# Altium footprint library ADC1X2200-10_V1-1.PcbLib: 38 footprints (part 3 of 3)
Each footprint in its own frame and in the unit in brackets; x right, y up, seen from the top. Pads: shape width x height; smd on the part's side, far side on the other; paste and mask are expansions set on the pad; w line width, h text height; cw(c..) or ccw(c..) is an arc to the next point about the centre after c.
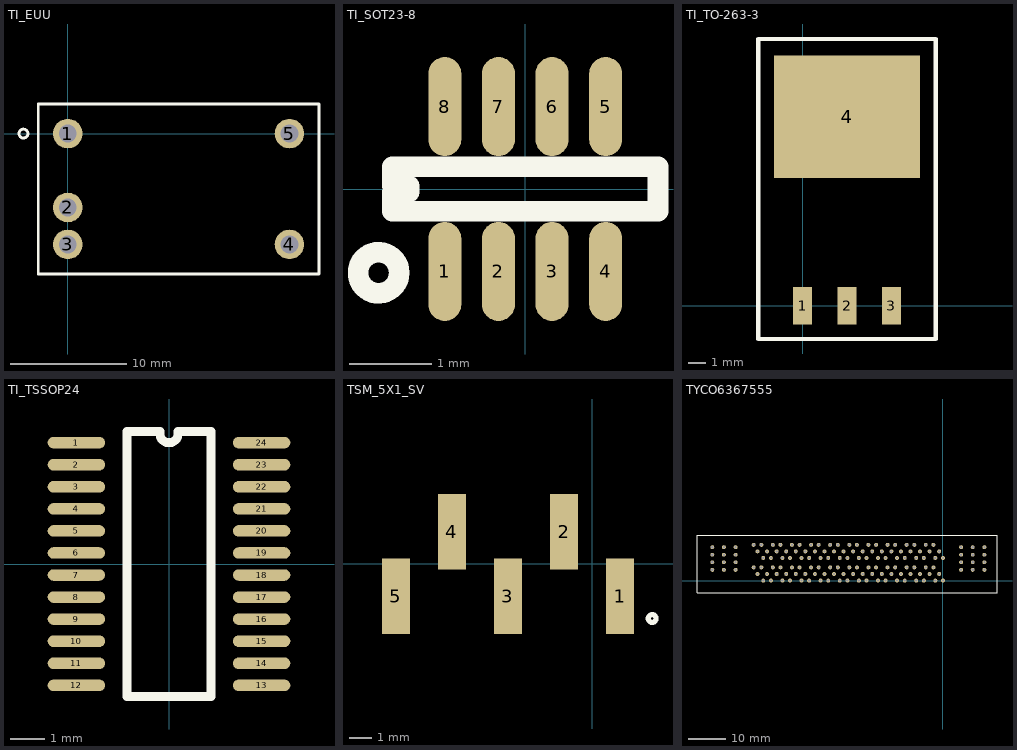
[diagram p2: the footprints below, top view; thin cyan lines are the x and y axes]

## TI_EUU [mil]
pads (5):
  round 100 hole 60: 1(0,0) 2(0,-250) 3(0,-375) 4(750,-375) 5(750,0)
Top Overlay:
  circle w9.84: c-150,0 r15
  lines w9.84: -100,-475 -100,100 850,100 850,-475 -100,-475
Mechanical 13:
  text "U?" at -75,100 h25
3D body: height 393.7, standoff 0, extent -65,-440 815,65

## TI_SOT23-8 [mm]
pads (8):
  oval 0.4x1.2 smd: 1(-0.975,-1) 2(-0.325,-1) 3(0.325,-1) 4(0.975,-1) 5(0.975,1) 6(0.325,1) 7(-0.325,1) 8(-0.975,1)
Top Overlay:
  circle w0.25: c-1.778,-1.016 r0.25
  lines w0.254: -1.61,-0.27 1.61,-0.27 1.61,0.27 -1.61,0.27 -1.61,0.034 -1.409,0.034 -1.409,-0.034 -1.61,-0.034 -1.61,-0.27
Mechanical 13:
  text "U1" at -0.438,-0.381 h0.64
3D body: height 1.2, standoff 0, extent -1.47,-1.4 1.47,1.4

## TI_TO-263-3 [mm]
pads (4):
  rect 1.07x2.16 smd: 1(0,0) 2(2.54,0) 3(5.08,0)
  rect 8.33x6.99 smd: 4(2.54,10.795)
Top Overlay:
  lines w0.254: -2.54,-1.905 -2.54,15.24 7.62,15.24 7.62,-1.905 -2.54,-1.905
Mechanical 13:
  text "T1" at -2.286,-3.175 h0.64
3D body: height 4.57, standoff -0.15, extent -2.54,-0.673 7.62,13.627

## TI_TSSOP24 [mil]
pads (24):
  oval 65x13 smd: 1(-105,137.5) 2(-105,112.5) 3(-105,87.5) 4(-105,62.5) 5(-105,37.5) 6(-105,12.5) 7(-105,-12.5) 8(-105,-37.5) 9(-105,-62.5) 10(-105,-87.5) 11(-105,-112.5) 12(-105,-137.5) 13(105,-137.5) 14(105,-112.5) 15(105,-87.5) 16(105,-62.5) 17(105,-37.5) 18(105,-12.5) 19(105,12.5) 20(105,37.5) 21(105,62.5) 22(105,87.5) 23(105,112.5) 24(105,137.5)
Top Overlay:
  lines w10: -47.5,-150 47.5,-150 47.5,150 10,150 10,145 cw(c0,147.92) -10,145 -10,150 -47.5,150 -47.5,-150
Mechanical 2:
  text "U34" at -34.34,-15 h25

## TSM_5X1_SV [mil]
pads (5):
  rect 50x135 smd mask+2: 1(50,-57.5) 2(-50,57.5) 3(-150,-57.5) 4(-250,57.5) 5(-350,-57.5)
Top Overlay:
  circle w9.06: c107.09,-97.24 r6.98
3D body: height 470, standoff 0, extent -400,-95 100,95

## TYCO6367555 [mm]
pads (144):
  round 1.05 hole 0.6: A1(0,0) A2(-2.03,0) A3(-5.08,0) A4(-7.11,0) A5(-10.16,0) A6(-12.19,0) A7(-15.24,0) A8(-17.27,0) A9(-20.32,0) A10(-22.35,0) A11(-25.4,0) A12(-27.43,0) A13(-30.48,0) A14(-32.51,0) A15(-35.56,0) A16(-37.59,0) A17(-40.64,0) A18(-42.67,0) A19(-45.72,0) A20(-47.75,0) B1(-1.01,1.75) B2(-3.55,1.75) B3(-6.09,1.75) B4(-8.63,1.75) B5(-11.17,1.75) B6(-13.71,1.75) B7(-16.25,1.75) B8(-18.79,1.75) B9(-21.33,1.75) B10(-23.87,1.75) B11(-26.41,1.75) B12(-28.95,1.75) B13(-31.49,1.75) B14(-34.03,1.75) B15(-36.57,1.75) B16(-39.11,1.75) B17(-41.65,1.75) B18(-44.19,1.75) B19(-46.73,1.75) B20(-49.27,1.75) C1(-2.54,3.5) C2(-4.57,3.5) C3(-7.62,3.5) C4(-9.65,3.5) C5(-12.7,3.5) C6(-14.73,3.5) C7(-17.78,3.5) C8(-19.81,3.5) C9(-22.86,3.5) C10(-24.89,3.5) C11(-27.94,3.5) C12(-29.97,3.5) C13(-33.02,3.5) C14(-35.05,3.5) C15(-38.1,3.5) C16(-40.13,3.5) C17(-43.18,3.5) C18(-45.21,3.5) C19(-48.26,3.5) C20(-50.29,3.5) D1(0,6) D2(-2.03,6) D3(-5.08,6) D4(-7.11,6) D5(-10.16,6) D6(-12.19,6) D7(-15.24,6) D8(-17.27,6) D9(-20.32,6) D10(-22.35,6) D11(-25.4,6) D12(-27.43,6) D13(-30.48,6) D14(-32.51,6) D15(-35.56,6) D16(-37.59,6) D17(-40.64,6) D18(-42.67,6) D19(-45.72,6) D20(-47.75,6) E1(-1.01,7.75) E2(-3.55,7.75) E3(-6.09,7.75) E4(-8.63,7.75) E5(-11.17,7.75) E6(-13.71,7.75) E7(-16.25,7.75) E8(-18.79,7.75) E9(-21.33,7.75) E10(-23.87,7.75) E11(-26.41,7.75) E12(-28.95,7.75) E13(-31.49,7.75) E14(-34.03,7.75) E15(-36.57,7.75) E16(-39.11,7.75) E17(-41.65,7.75) E18(-44.19,7.75) E19(-46.73,7.75) E20(-49.27,7.75) F1(-2.54,9.5) F2(-4.57,9.5) F3(-7.62,9.5) F4(-9.65,9.5) F5(-12.7,9.5) F6(-14.73,9.5) F7(-17.78,9.5) F8(-19.81,9.5) F9(-22.86,9.5) F10(-24.89,9.5) F11(-27.94,9.5) F12(-29.97,9.5) F13(-33.02,9.5) F14(-35.05,9.5) F15(-38.1,9.5) F16(-40.13,9.5) F17(-43.18,9.5) F18(-45.21,9.5) F19(-48.26,9.5) F20(-50.29,9.5) W1(-61.295,2.86) W2(-58.195,2.86) W3(-55.095,2.86) W4(4.805,2.86) W5(7.905,2.86) W6(11.005,2.86) X1(-61.295,4.86) X2(-58.195,4.86) X3(-55.095,4.86) X4(4.805,4.86) X5(7.905,4.86) X6(11.005,4.86) Y1(-61.295,6.86) Y2(-58.195,6.86) Y3(-55.095,6.86) Y4(4.805,6.86) Y5(7.905,6.86) Y6(11.005,6.86) Z1(-61.295,8.86) Z2(-58.195,8.86) Z3(-55.095,8.86) Z4(4.805,8.86) Z5(7.905,8.86) Z6(11.005,8.86)
Top Overlay:
  lines w0.25: -65.355,-3.2 -65.355,12 14.355,12 14.355,-3.2 -65.355,-3.2
3D body: height 10.5, standoff -2.11, extent -65.027,-12.319 13.973,11.641